# Altium schematic symbol library M-MURATA-ZIGBEE.SchLib: 1 symbol
Pins are listed as number, name and electrical type; pins without a type are passive.

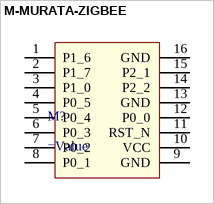
[diagram p0: symbol M-MURATA-ZIGBEE]

## M-MURATA-ZIGBEE
designator M?
=Description
pins: 1 P1_6, 2 P1_7, 3 P1_0, 4 P0_5, 5 P0_4, 6 P0_3, 7 P0_2, 8 P0_1, 9 GND, 10 VCC, 11 RST_N, 12 P0_0, 13 GND, 14 P2_2, 15 P2_1, 16 GND